# Altium footprint library Crystals.PcbLib: 2 footprints
Each footprint in its own frame and in the unit in brackets; x right, y up, seen from the top. Pads: shape width x height; smd on the part's side, far side on the other; paste and mask are expansions set on the pad; w line width, h text height; cw(c..) or ccw(c..) is an arc to the next point about the centre after c.
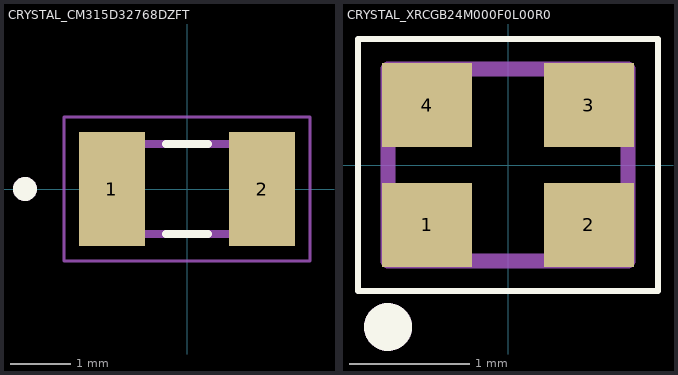
[diagram p0: the footprints below, top view; thin cyan lines are the x and y axes]

## CRYSTAL_CM315D32768DZFT [mm]
pads (2):
  rect 1.1x1.9 smd: 1(-1.25,0) 2(1.25,0)
Top Overlay:
  circle w0.2: c-2.7,0 r0.1
  lines w0.127: -0.35,-0.75 0.35,-0.75 ; -0.35,0.75 0.35,0.75
3D Top:
  circle w0.2: c-2.7,0 r0.1
  lines w0.127: -1.6,-0.75 -1.6,0.75 1.6,0.75 1.6,-0.75 -1.6,-0.75
Courtyard Top:
  lines w0.05: -2.05,-1.2 -2.05,1.2 2.05,1.2 2.05,-1.2 -2.05,-1.2
3D body: height 0.9, standoff 0, extent -1.6,-0.75 1.6,0.75

## CRYSTAL_XRCGB24M000F0L00R0 [mm]
pads (4):
  rect 0.75x0.7 smd: 1(-0.675,-0.5) 2(0.675,-0.5) 3(0.675,0.5) 4(-0.675,0.5)
Top Overlay:
  circle w0.2: c-1,-1.35 r0.1
  lines w0.05: -1.25,-1.05 1.25,-1.05 1.25,1.05 -1.25,1.05 -1.25,-1.05
3D Top:
  circle w0.2: c-1,-1.35 r0.1
  lines w0.127: -1,-0.8 -1,0.8 1,0.8 1,-0.8 -1,-0.8
3D body: height 0.7, standoff 0, extent -1,-0.8 1,0.8